# EAGLE library part COMPARATOR:SE_WITH_EN (library QuantumOptics)
Comparator, single ended with enable, e.g. TLV3501.
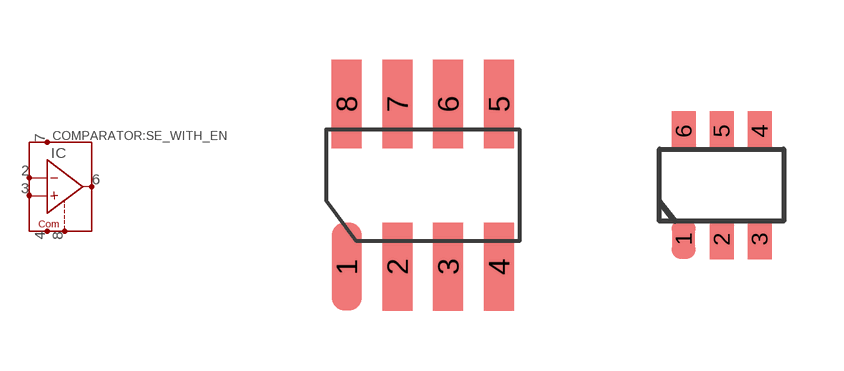
[diagram p133: symbol with the pads of SOIC-8; footprints SOIC-8, SOT23-6]

Designator prefix IC

## COMPARATOR:SE_WITH_EN-SO8  [SOIC-8]
2  IN-
3  IN+
4  COM
6  Q
7  VCC
8  SHDN  nc

## COMPARATOR:SE_WITH_EN-SOT23-6  [SOT23-6]
1  IN-
2  COM
3  IN+
4  VCC
5  Q
6  SHDN  nc

## Footprint SOIC-8 (pad centres in mm)
SOIC-8 (AKA SO-8), pads on 0.050" grid.
smd 0.75 x 2.2: 1 -1.27,-2.032; 2 0,-2.032; 3 1.27,-2.032; 4 2.54,-2.032; 5 2.54,2.032; 6 1.27,2.032; 7 0,2.032; 8 -1.27,2.032

## Footprint SOT23-6 (pad centres in mm)
SOT-23 6-pin, on wonderful 0.95mm (~0.037") pad-pad spacing.
smd 0.6 x 1: 1 -0.95,-1.35; 2 0,-1.35; 3 0.95,-1.35; 4 0.95,1.35; 5 0,1.35; 6 -0.95,1.35